# Altium footprint library SAMTEC_TSW-101-07-F-D.PcbLib: 1 footprints
Each footprint in its own frame and in the unit in brackets; x right, y up, seen from the top. Pads: shape width x height; smd on the part's side, far side on the other; paste and mask are expansions set on the pad; w line width, h text height; cw(c..) or ccw(c..) is an arc to the next point about the centre after c.
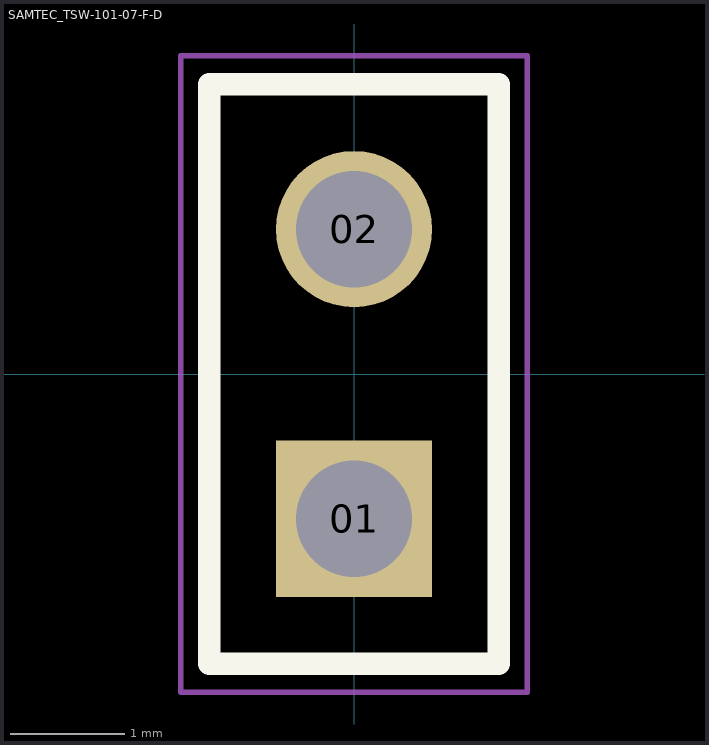
[diagram p0: the footprint, top view; thin cyan lines are the x and y axes]

## SAMTEC_TSW-101-07-F-D [mm]
pads (2):
  rect 1.37x1.37 hole 1.02: 01(0,-1.27)
  round 1.37 hole 1.02: 02(0,1.27)
Top Overlay:
  lines w0.2: -1.27,-2.54 1.27,-2.54 1.27,2.54 -1.27,2.54 -1.27,-2.54
Mechanical 13:
  lines w0.1: -1.27,-2.54 -1.27,2.54 ; -1.27,-2.54 1.27,-2.54 ; -1.27,-2.54 -1.27,2.54 ; -1.27,2.54 1.27,2.54 ; -1.27,2.54 1.27,2.54 ; 1.27,-2.54 1.27,2.54 ; 1.27,-2.54 1.27,2.54
Mechanical 15:
  lines w0.05: -1.52,-2.79 1.52,-2.79 1.52,2.79 -1.52,2.79 -1.52,-2.79